# Altium schematic symbol library MOSFET-N-CH.SchLib: 1 symbol
Pins are listed as number, name and electrical type; pins without a type are passive.

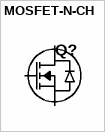
[diagram p0: symbol MOSFET-N-CH]

## MOSFET-N-CH
designator Q?
pins: 1 G, 2 S, 3 D